# Altium footprint library PCB - CONNECTOR - MODULAR - AMPHENOL RJCSE538001.PCBLIB: 1 footprints
Each footprint in its own frame and in the unit in brackets; x right, y up, seen from the top. Pads: shape width x height; smd on the part's side, far side on the other; paste and mask are expansions set on the pad; w line width, h text height; cw(c..) or ccw(c..) is an arc to the next point about the centre after c.
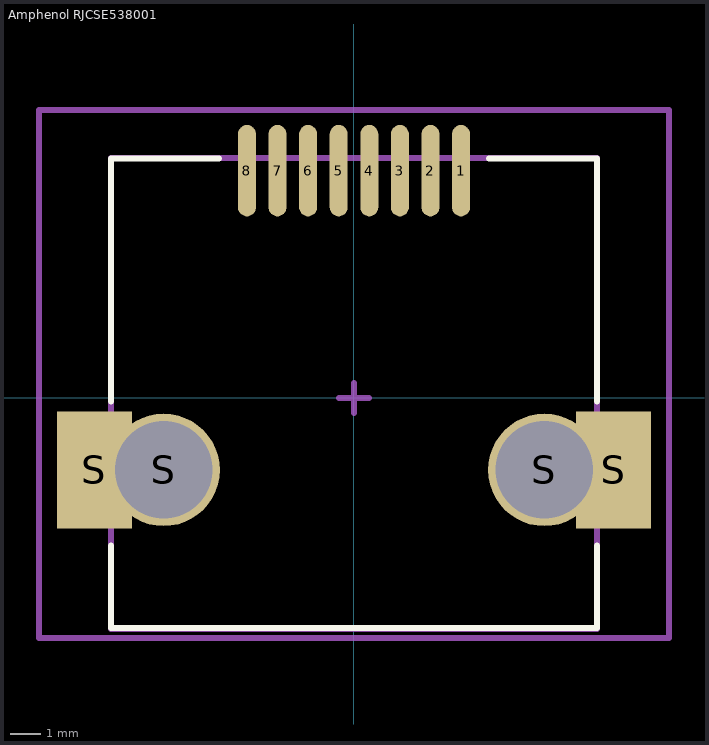
[diagram p0: the footprint, top view; thin cyan lines are the x and y axes]

## Amphenol RJCSE538001 [mm]
height 13.46
pads (12):
  oval 0.6x3.05 smd: 1(3.57,7.58) 2(2.55,7.58) 3(1.53,7.58) 4(0.51,7.58) 5(-0.51,7.58) 6(-1.53,7.58) 7(-2.55,7.58) 8(-3.57,7.58)
  rect 2.5x3.9 smd: S(-8.66,-2.4) S(8.66,-2.4)
  round 3.75 hole 3.25: S(-6.35,-2.4) S(6.35,-2.4)
Top Overlay:
  lines w0.2: -8.1,-4.92 -8.1,-7.67 0,-7.67 8.1,-7.67 8.1,-4.92 ; -8.1,-0.12 -8.1,7.98 -4.5,7.98 ; 4.5,7.98 8.1,7.98 8.1,-0.12
Mechanical 13:
  lines w0.2: -8.1,-7.7 8.1,-7.7 8.1,8 -8.1,8 -8.1,-7.7
Mechanical 15:
  lines w0.2: -0.5,0 0.5,0 ; 0,-0.5 0,0.5 ; -10.5,-8 -10.5,9.6 10.5,9.6 10.5,-8 -10.5,-8
3D body "Amphenol RJCSE538001.STEP": height 14.77, standoff -1.27, extent -9.43,-7.66 9.43,8.875